# Altium footprint library USB.PcbLib: 4 footprints
Each footprint in its own frame and in the unit in brackets; x right, y up, seen from the top. Pads: shape width x height; smd on the part's side, far side on the other; paste and mask are expansions set on the pad; w line width, h text height; cw(c..) or ccw(c..) is an arc to the next point about the centre after c.
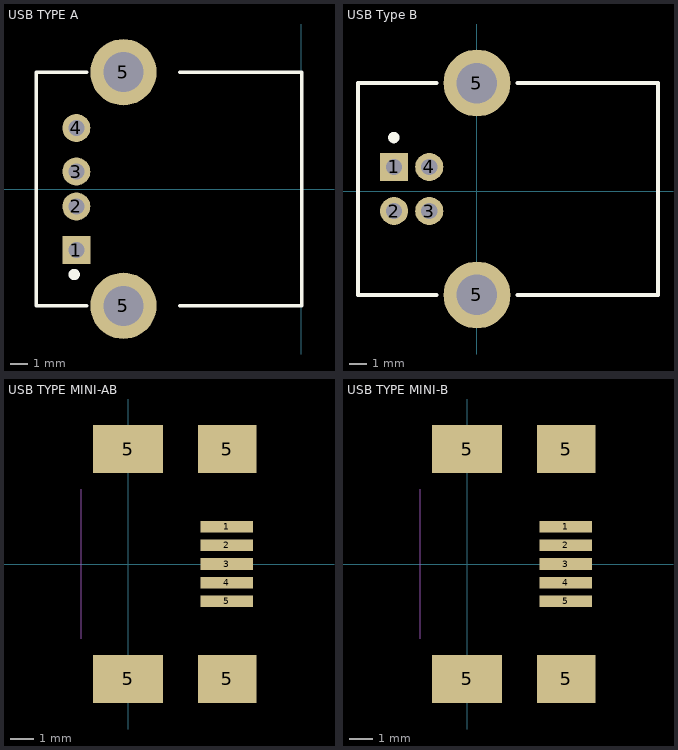
[diagram p0: the footprints below, top view; thin cyan lines are the x and y axes]

## USB TYPE A [mm] "USB Type A, SMT 4 Position Right Angle Based on Kycon KUSBLX-SMT-AS1NXXX"
height 7.05
pads (6):
  rect 1.6x1.6 hole 0.92: 1(-12.9,-3.5)
  round 1.6 hole 0.92: 2(-12.9,-1) 3(-12.9,1) 4(-12.9,3.5)
  round 3.8 hole 2.3: 5(-10.2,-6.7) 5(-10.2,6.7)
Top Overlay:
  circle w0.4: c-13.025,-4.9 r0.125
  lines w0.2: -12.3,-6.7 -15.2,-6.7 -15.2,6.7 -12.3,6.7 ; -6.98,-6.7 0.025,-6.7 0.025,6.7 -6.98,6.7
3D body: height 7.73, standoff -3.7, extent -15.2,-8 0.06,7.999

## USB Type B [mm] "Molex USB Type B"
height 11
pads (6):
  rect 1.6x1.6 hole 0.92: 1(-4.683,1.377)
  round 1.6 hole 0.92: 2(-4.683,-1.123) 3(-2.683,-1.123) 4(-2.683,1.377)
  round 3.8 hole 2.3: 5(0.027,-5.893) 5(0.027,6.147)
Top Overlay:
  circle w0.4: c-4.697,3.048 r0.125
  lines w0.2: -2.273,-5.893 -6.731,-5.893 -6.731,6.147 -2.273,6.147 ; 2.327,-5.893 10.307,-5.893 10.307,6.147 2.327,6.147
3D body: height 11, standoff -2.8, extent -6.722,-5.904 10.278,6.096

## USB TYPE MINI-AB [mm] "Molex USB Mini-B Receptacle 565790576"
height 3.55
pads (9):
  rect 2.25x0.5 smd: 1(4.225,1.6) 2(4.225,0.8) 3(4.225,0) 4(4.225,-0.8) 5(4.225,-1.6)
  rect 3x2.05 smd: 5(0,-4.925) 5(0,4.925)
  rect 2.5x2.05 smd: 5(4.25,-4.925) 5(4.25,4.925)
Mechanical 1:
  lines w0.025: -2,-3.2 -2,3.2
3D body: height 3.95, standoff 0, extent -3.975,-4.95 5.025,4.95

## USB TYPE MINI-B [mm] "Molex USB Mini-B Receptacle 548190572"
height 3.55
pads (9):
  rect 2.25x0.5 smd: 1(4.225,1.6) 2(4.225,0.8) 3(4.225,0) 4(4.225,-0.8) 5(4.225,-1.6)
  rect 3x2.05 smd: 5(0,-4.925) 5(0,4.925)
  rect 2.5x2.05 smd: 5(4.25,-4.925) 5(4.25,4.925)
Mechanical 1:
  lines w0.025: -2,-3.2 -2,3.2
3D body: height 4.05, standoff 0, extent -3.975,-4.95 5.025,4.95